# EAGLE library part ADS8327 (library custom)
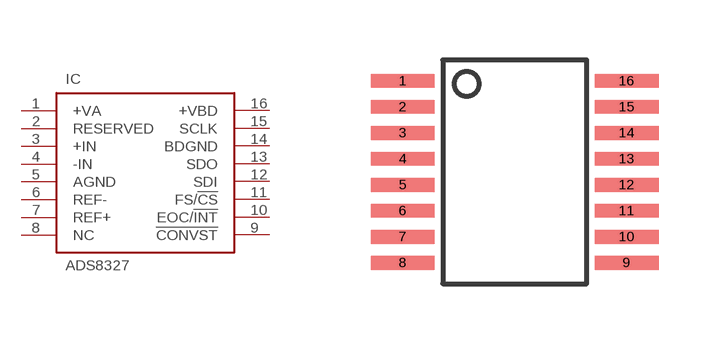
[diagram p2: symbol with the pads of TSSOP16; footprint TSSOP16]

Designator prefix IC

## ADS8327  [TSSOP16]
1  +VA
2  RESERVED
3  +IN
4  -IN
5  AGND
6  REF-
7  REF+
8  NC
9  !CONVST
10  EOC/!INT
11  FS/!CS
12  SDI
13  SDO
14  BDGND
15  SCLK
16  +VBD

## Footprint TSSOP16 (pad centres in mm)
smd 1.6 x 0.35: 1 -2.8,2.275; 2 -2.8,1.625; 3 -2.8,0.975; 4 -2.8,0.325; 5 -2.8,-0.325; 6 -2.8,-0.975; 7 -2.8,-1.625; 8 -2.8,-2.275; 9 2.8,-2.275; 10 2.8,-1.625; 11 2.8,-0.975; 12 2.8,-0.325; 13 2.8,0.325; 14 2.8,0.975; 15 2.8,1.625; 16 2.8,2.275